# EAGLE library part CZ-HC-05_CON (library Enlighten)
HC-05 Bluetooth module with GOMCU baseplate. Version with attached female pin header.
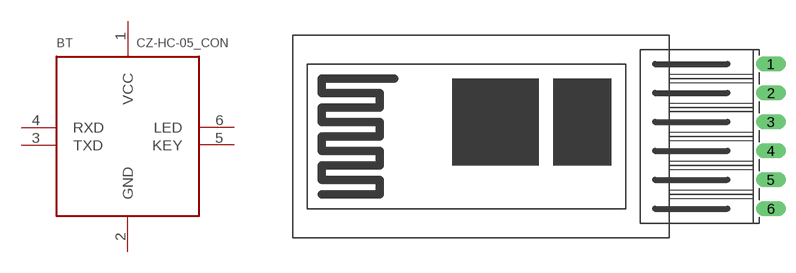
[diagram p0: symbol with the pads of CZ-HC-05_CON; footprint CZ-HC-05_CON]

Designator prefix BT

## CZ-HC-05_CON  [CZ-HC-05_CON]
1  VCC  pwr
2  GND  pwr
3  TXD  out
4  RXD  in
5  KEY  pas
6  LED  pas

## Footprint CZ-HC-05_CON (pad centres in mm)
HC-05 Bluetooth module with GOMCU baseplate. Version with attached female pin header.
drill 0.813 long: 1 41.91,15.24; 2 41.91,12.7; 3 41.91,10.16; 4 41.91,7.62; 5 41.91,5.08; 6 41.91,2.54